# Altium footprint library BM11B-GHS-TBT(LF)(SN)(N).PcbLib: 1 footprints
Each footprint in its own frame and in the unit in brackets; x right, y up, seen from the top. Pads: shape width x height; smd on the part's side, far side on the other; paste and mask are expansions set on the pad; w line width, h text height; cw(c..) or ccw(c..) is an arc to the next point about the centre after c.
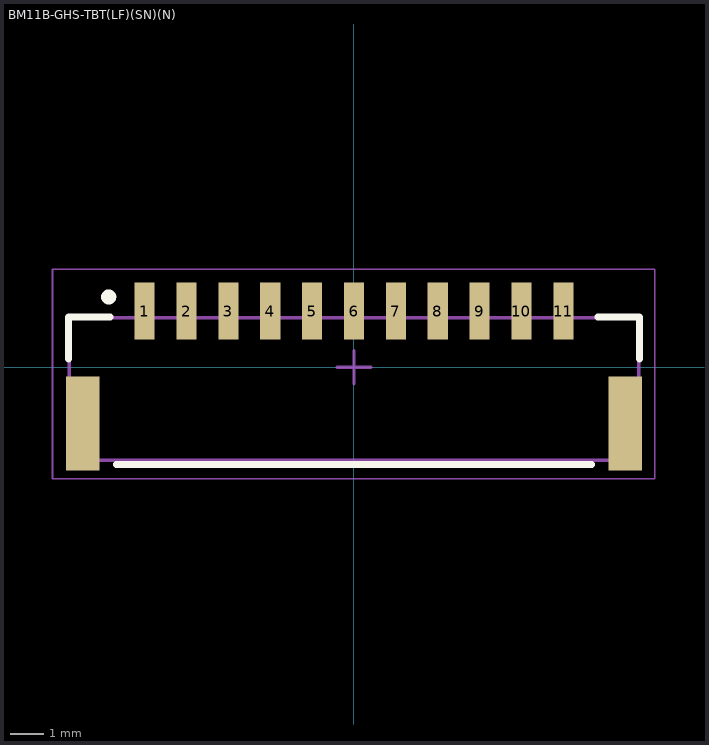
[diagram p0: the footprint, top view; thin cyan lines are the x and y axes]

## BM11B-GHS-TBT(LF)(SN)(N) [mm]
pads (13):
  rect 0.6x1.7 smd: 1(-6.25,1.675) 2(-5,1.675) 3(-3.75,1.675) 4(-2.5,1.675) 5(-1.25,1.675) 6(0,1.675) 7(1.25,1.675) 8(2.5,1.675) 9(3.75,1.675) 10(5,1.675) 11(6.25,1.675)
  rect 1x2.8 smd: ""(-8.1,-1.675) ""(8.1,-1.675)
Top Overlay:
  circle w0.254: c-7.325,2.1 r0.1
  lines w0.2: -8.525,0.25 -8.525,1.5 -7.275,1.5 ; -7.1,-2.9 7.1,-2.9 ; 7.275,1.5 8.525,1.5 8.525,0.25
Mechanical 1:
  lines w0.1: -8.5,-2.775 -8.5,1.475 8.5,1.475 8.5,-2.775 -8.5,-2.775
  text ".Designator" at -3.374,-1.258 h0.65
Mechanical 2:
  lines w0.05: -9,-3.325 -9,2.925 8.975,2.925 8.975,-3.325 -9,-3.325
  lines w0.1: -0.5,0 0.5,0 ; 0,-0.5 0,0.5
3D body "BM11B-GHS-TBT.STEP": height 4.18, standoff -0.03, extent -8.525,-2.825 8.475,2.125